# EAGLE library part WE-SPEEDY_DESIGN_SERVICE_12PIN (library WE-SPEEDY_DESIGN_SERVICE_12PIN)
WE-Speedy Design Service, 12 Pin - Any application that fits package style - Switch Mode Power: Flyback, Forward, Push-Pull, Coupled Inductor -- Telecom Applications: xDSL, POTS Splitter Inductors
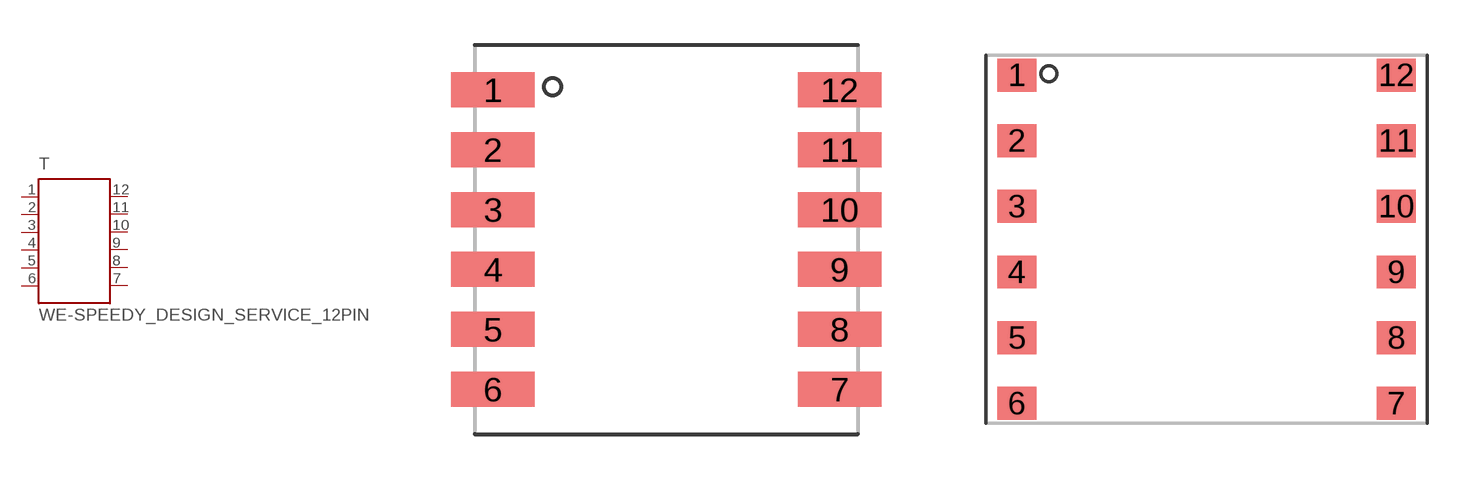
[diagram p0: symbol with the pads of WE_ER11.5_SMD_12PIN; footprints WE_ER11.5_SMD_12PIN, WE_ER14.5_SMD_12PIN]

Designator prefix T

## WE-SPEEDY_DESIGN_SERVICE_12PIN_ER11.5_SMD  [WE_ER11.5_SMD_12PIN]
1  1  pas
2  2  pas
3  3  pas
4  4  pas
5  5  pas
6  6  pas
7  7  pas
8  8  pas
9  9  pas
10  10  pas
11  11  pas
12  12  pas

## WE-SPEEDY_DESIGN_SERVICE_12PIN_ER14.5_SMD  [WE_ER14.5_SMD_12PIN]
Pads as for WE_ER11.5_SMD_12PIN

## WE-SPEEDY_DESIGN_SERVICE_12PIN_EFD15_SMD  [WE_EFD15_SMD_12PIN]
Pads as for WE_ER11.5_SMD_12PIN

## WE-SPEEDY_DESIGN_SERVICE_12PIN-750310617_EFD20_SMD (MPN: 750310617; OC_FARNELL: 1895759; OC_NEWARK: 47T5819; PACKAGE: EFD20_SMD_12PIN; SUPPLIER: Würth Elektronik eiSos GmbH), WE-SPEEDY_DESIGN_SERVICE_12PIN-750311385_EFD20_SMD (MPN: 750311385; OC_FARNELL: 1895757; OC_NEWARK: 47T5828; PACKAGE: EFD20_SMD_12PIN; SUPPLIER: Würth Elektronik eiSos GmbH), WE-SPEEDY_DESIGN_SERVICE_12PIN-750311597_EFD20_SMD (MPN: 750311597; OC_FARNELL: 1895761; OC_NEWARK: 47T5848; PACKAGE: EFD20_SMD_12PIN; SUPPLIER: Würth Elektronik eiSos GmbH), WE-SPEEDY_DESIGN_SERVICE_12PIN-750311598_EFD20_SMD (MPN: 750311598; OC_FARNELL: 1895762; OC_NEWARK: 47T5849; PACKAGE: EFD20_SMD_12PIN; SUPPLIER: Würth Elektronik eiSos GmbH), WE-SPEEDY_DESIGN_SERVICE_12PIN-750311599_EFD20_SMD (MPN: 750311599; OC_FARNELL: 1895763; OC_NEWARK: 47T5850; PACKAGE: EFD20_SMD_12PIN; SUPPLIER: Würth Elektronik eiSos GmbH), WE-SPEEDY_DESIGN_SERVICE_12PIN-750311600_EFD20_SMD (MPN: 750311600; OC_FARNELL: 1895764; OC_NEWARK: unknown; PACKAGE: EFD20_SMD_12PIN; SUPPLIER: Würth Elektronik eiSos GmbH), WE-SPEEDY_DESIGN_SERVICE_12PIN-750311604_EFD20_SMD (MPN: 750311604; OC_FARNELL: 1895765; OC_NEWARK: 47T5852; PACKAGE: EFD20_SMD_12PIN; SUPPLIER: Würth Elektronik eiSos GmbH), WE-SPEEDY_DESIGN_SERVICE_12PIN-750311605_EFD20_SMD (MPN: 750311605; OC_FARNELL: 1895766; OC_NEWARK: 47T5853; PACKAGE: EFD20_SMD_12PIN; SUPPLIER: Würth Elektronik eiSos GmbH), WE-SPEEDY_DESIGN_SERVICE_12PIN-750311607_EFD20_SMD (MPN: 750311607; OC_FARNELL: 1895767; OC_NEWARK: 47T5854; PACKAGE: EFD20_SMD_12PIN; SUPPLIER: Würth Elektronik eiSos GmbH), WE-SPEEDY_DESIGN_SERVICE_12PIN-750311608_EFD20_SMD (MPN: 750311608; OC_FARNELL: 1895768; OC_NEWARK: 47T5855; PACKAGE: EFD20_SMD_12PIN; SUPPLIER: Würth Elektronik eiSos GmbH), WE-SPEEDY_DESIGN_SERVICE_12PIN-750311797_EFD20_SMD (MPN: 750311797; OC_FARNELL: 1895769; OC_NEWARK: 47T5865; PACKAGE: EFD20_SMD_12PIN; SUPPLIER: Würth Elektronik eiSos GmbH)  [WE_EFD20_SMD_12PIN]
Pads as for WE_ER11.5_SMD_12PIN

## WE-SPEEDY_DESIGN_SERVICE_12PIN-750310988_EFD25_SMD (MPN: 750310988; OC_FARNELL: 1895780; OC_NEWARK: 47T5820; PACKAGE: EFD25-SMD; SUPPLIER: Würth Elektronik eiSos GmbH), WE-SPEEDY_DESIGN_SERVICE_12PIN-750311589_EFD25_SMD (MPN: 750311589; OC_FARNELL: 1895770; OC_NEWARK: 47T5840; PACKAGE: EFD25-SMD; SUPPLIER: Würth Elektronik eiSos GmbH), WE-SPEEDY_DESIGN_SERVICE_12PIN-750311590_EFD25_SMD (MPN: 750311590; OC_FARNELL: 1895772; OC_NEWARK: 47T5841; PACKAGE: EFD25-SMD; SUPPLIER: Würth Elektronik eiSos GmbH), WE-SPEEDY_DESIGN_SERVICE_12PIN-750311591_EFD25_SMD (MPN: 750311591; OC_FARNELL: 1895773; OC_NEWARK: 47T5842; PACKAGE: EFD25-SMD; SUPPLIER: Würth Elektronik eiSos GmbH), WE-SPEEDY_DESIGN_SERVICE_12PIN-750311592_EFD25_SMD (MPN: 750311592; OC_FARNELL: 1895774; OC_NEWARK: 47T5843; PACKAGE: EFD25-SMD; SUPPLIER: Würth Elektronik eiSos GmbH), WE-SPEEDY_DESIGN_SERVICE_12PIN-750311593_EFD25_SMD (MPN: 750311593; OC_FARNELL: 1895775; OC_NEWARK: 47T5844; PACKAGE: EFD25-SMD; SUPPLIER: Würth Elektronik eiSos GmbH), WE-SPEEDY_DESIGN_SERVICE_12PIN-750311594_EFD25_SMD (MPN: 750311594; OC_FARNELL: 1895776; OC_NEWARK: 47T5845; PACKAGE: EFD25-SMD; SUPPLIER: Würth Elektronik eiSos GmbH), WE-SPEEDY_DESIGN_SERVICE_12PIN-750311595_EFD25_SMD (MPN: 750311595; OC_FARNELL: 1895777; OC_NEWARK: 47T5846; PACKAGE: EFD25-SMD; SUPPLIER: Würth Elektronik eiSos GmbH), WE-SPEEDY_DESIGN_SERVICE_12PIN-750311596_EFD25_SMD (MPN: 750311596; OC_FARNELL: 1895778; OC_NEWARK: 47T5847; PACKAGE: EFD25-SMD; SUPPLIER: Würth Elektronik eiSos GmbH), WE-SPEEDY_DESIGN_SERVICE_12PIN-750311771_EFD25_SMD (MPN: 750311771; OC_FARNELL: 1895779; OC_NEWARK: 47T5863; PACKAGE: EFD25-SMD; SUPPLIER: Würth Elektronik eiSos GmbH), WE-SPEEDY_DESIGN_SERVICE_12PIN-750311783_EFD25_SMD (MPN: 750311783; OC_FARNELL: 1895781; OC_NEWARK: 47T5864; PACKAGE: EFD25-SMD; SUPPLIER: Würth Elektronik eiSos GmbH), WE-SPEEDY_DESIGN_SERVICE_12PIN-750311889_EFD25_SMD (MPN: 750311889; OC_FARNELL: 1895731; OC_NEWARK: 47T5867; PACKAGE: EFD25-SMD; SUPPLIER: Würth Elektronik eiSos GmbH)  [WE_EFD25_SMD_12PIN]
Pads as for WE_ER11.5_SMD_12PIN

## WE-SPEEDY_DESIGN_SERVICE_12PIN_ER28_THT  [WE_ER28_THT_HORIZONTAL_12PIN]
Pads as for WE_ER11.5_SMD_12PIN

## Footprint WE_ER11.5_SMD_12PIN (pad centres in mm)
Transformer, ER11.5 SMD 12 Pin
smd 2.79 x 1.17: 1 -5.79,5; 2 -5.79,3; 3 -5.79,1; 4 -5.79,-1; 5 -5.79,-3; 6 -5.79,-5; 7 5.79,-5; 8 5.79,-3; 9 5.79,-1; 10 5.79,1; 11 5.79,3; 12 5.79,5

## Footprint WE_ER14.5_SMD_12PIN (pad centres in mm)
Transformer, ER14.5 SMD 12 Pin
smd 1.5 x 1.25: 1 -7.225,6.25; 2 -7.225,3.75; 3 -7.225,1.25; 4 -7.225,-1.25; 5 -7.225,-3.75; 6 -7.225,-6.25; 7 7.225,-6.25; 8 7.225,-3.75; 9 7.225,-1.25; 10 7.225,1.25; 11 7.225,3.75; 12 7.225,6.25

## Footprint WE_EFD15_SMD_12PIN (pad centres in mm)
Transformer, EFD15 SMD 12 Pin
smd 2.62 x 1.17: 1 -9.895,6.225; 2 -9.895,3.735; 3 -9.895,1.245; 4 -9.895,-1.245; 5 -9.895,-3.735; 6 -9.895,-6.225; 7 9.895,-6.225; 8 9.895,-3.735; 9 9.895,-1.245; 10 9.895,1.245; 11 9.895,3.735; 12 9.895,6.225

## Footprint WE_EFD20_SMD_12PIN (pad centres in mm)
Transformer, EFD20 SMD 12 Pin
smd 3.05 x 1.27: 1 -13.26,7.5; 2 -13.26,4.5; 3 -13.26,1.5; 4 -13.26,-1.5; 5 -13.26,-4.5; 6 -13.26,-7.5; 7 13.26,-7.5; 8 13.26,-4.5; 9 13.26,-1.5; 10 13.26,1.5; 11 13.26,4.5; 12 13.26,7.5

## Footprint WE_EFD25_SMD_12PIN (pad centres in mm)
Transformer, EFD25 SMD 12 Pin
smd 2.06 x 1.45: 1 -16.155,9.4; 2 -16.155,5.64; 3 -16.155,1.88; 4 -16.155,-1.88; 5 -16.155,-5.64; 6 -16.155,-9.4; 7 16.155,-9.4; 8 16.155,-5.64; 9 16.155,-1.88; 10 16.155,1.88; 11 16.155,5.64; 12 16.155,9.4

## Footprint WE_ER28_THT_HORIZONTAL_12PIN (pad centres in mm)
Transformer, ER28 THT Horizontal 12 Pin
drill 1.69 square: 1 -12.7,12.5
drill 1.69: 2 -12.7,7.5; 3 -12.7,2.5; 4 -12.7,-2.5; 5 -12.7,-7.5; 6 -12.7,-12.5; 7 12.7,-12.5; 8 12.7,-7.5; 9 12.7,-2.5; 10 12.7,2.5; 11 12.7,7.5; 12 12.7,12.5